# Altium integrated library MCP73831T-2ATI_OT.IntLib: 1 symbol
Pins are listed as number, name and electrical type; pins without a type are passive.

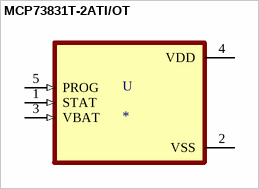
[diagram p0: symbol MCP73831T-2ATI/OT]

## MCP73831T-2ATI/OT
designator U
Charger IC Lithium Ion/Polymer SOT-23-5; MP: MCP73831T-2ATI/OT; MF: Microchip; Availability: Unavailable; SnapEDA_Link: https://www.snapeda.com/parts/MCP73831T-2ATI/OT/Microchip/view-part/51423/?ref=snap; Price: None; Arrow_Americas-Purchase-URL: https://snapeda.com/shop?store=Arrow+Americas&id=51423; Package: SOT-23 Microchip; DigiKey-Purchase-URL: https://snapeda.com/shop?store=DigiKey&id=51423; Value: *; Mouser-Purchase-URL: https://snapeda.com/shop?store=Mouser&id=51423
footprint SOT95P280X145-5N
pins: 1 STAT (in), 2 VSS (power), 3 VBAT (in), 4 VDD (power), 5 PROG (in)